# Altium schematic symbol library Res_Stackpole_RSMF2JT1R00_eec.SchLib: 1 symbol
Pins are listed as number, name and electrical type; pins without a type are passive.

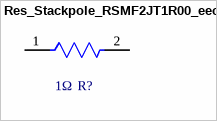
[diagram p0: symbol Res_Stackpole_RSMF2JT1R00_eec]

## Res_Stackpole_RSMF2JT1R00_eec
designator R?  Resistance: 1Ω
RES 1 OHM 2W 5% AXIAL; Part Number: RSMF2JT1R00; Manufacturer: Stackpole; Value: 1Ω; Mfg Package Ident: RSMF200; helpURL: https://upverter.com/upn/revision/716da86875bb45eb/; ComponentLink2Description: Datasheet; Temperature: -55°C to +235°C; Package: RSMF200; Supplier 2: Mouser; Price: 0.104311328876; Supplier 1: Digi-Key; ComponentLink1URL: https://upverter.com/upn/revision/716da86875bb45eb/; Supplier Part Number 1: RSMF2JT1R00CT-ND; ComponentLink1Description: Upverter; ComponentLink2URL: https://www.seielect.com/Catalog/SEI-RSF_RSMF.pdf; RoHS: TRUE; Ipc Land Pattern Name: CAPAD1811W100L1100D450; Temperature Range High: +235°C; Digikey Description: RES 1 OHM 2W 5% AXIAL; Digikey Part Number: RSMF2JT1R00CT-ND; Lead Free: yes; Temperature Range Low: -55°C
footprint Stackpole_RSMF200_0
pins: 1, 2